# Altium schematic symbol library Schlib1.SchLib: 6 symbols
Pins are listed as number, name and electrical type; pins without a type are passive.

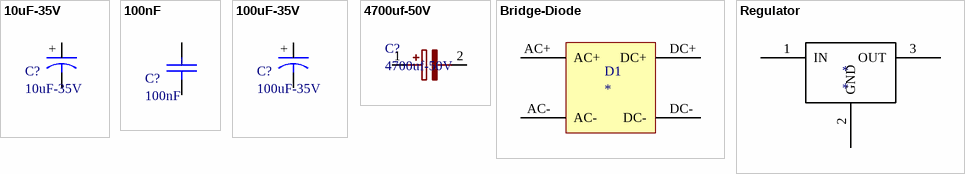
[diagram p0: symbols 10uF-35V to Regulator]

## 10uF-35V
designator C?
footprint 10uF-35V
pins: +, -

## 100nF
designator C?
footprint 100nF
pins: 1, 2

## 100uF-35V
designator C?
footprint 100uf-35v
pins: +, -

## 4700uf-50V
designator C?
footprint 4700uF-50V
pins: 1 +, 2 -

## Bridge-Diode
designator D1
pins: AC+, AC-, DC+, DC-

## Regulator
designator *
pins: 1 IN, 2 GND, 3 OUT